# Altium footprint library power_board_pcbblib.PcbLib: 45 footprints (part 2 of 3)
Each footprint in its own frame and in the unit in brackets; x right, y up, seen from the top. Pads: shape width x height; smd on the part's side, far side on the other; paste and mask are expansions set on the pad; w line width, h text height; cw(c..) or ccw(c..) is an arc to the next point about the centre after c.
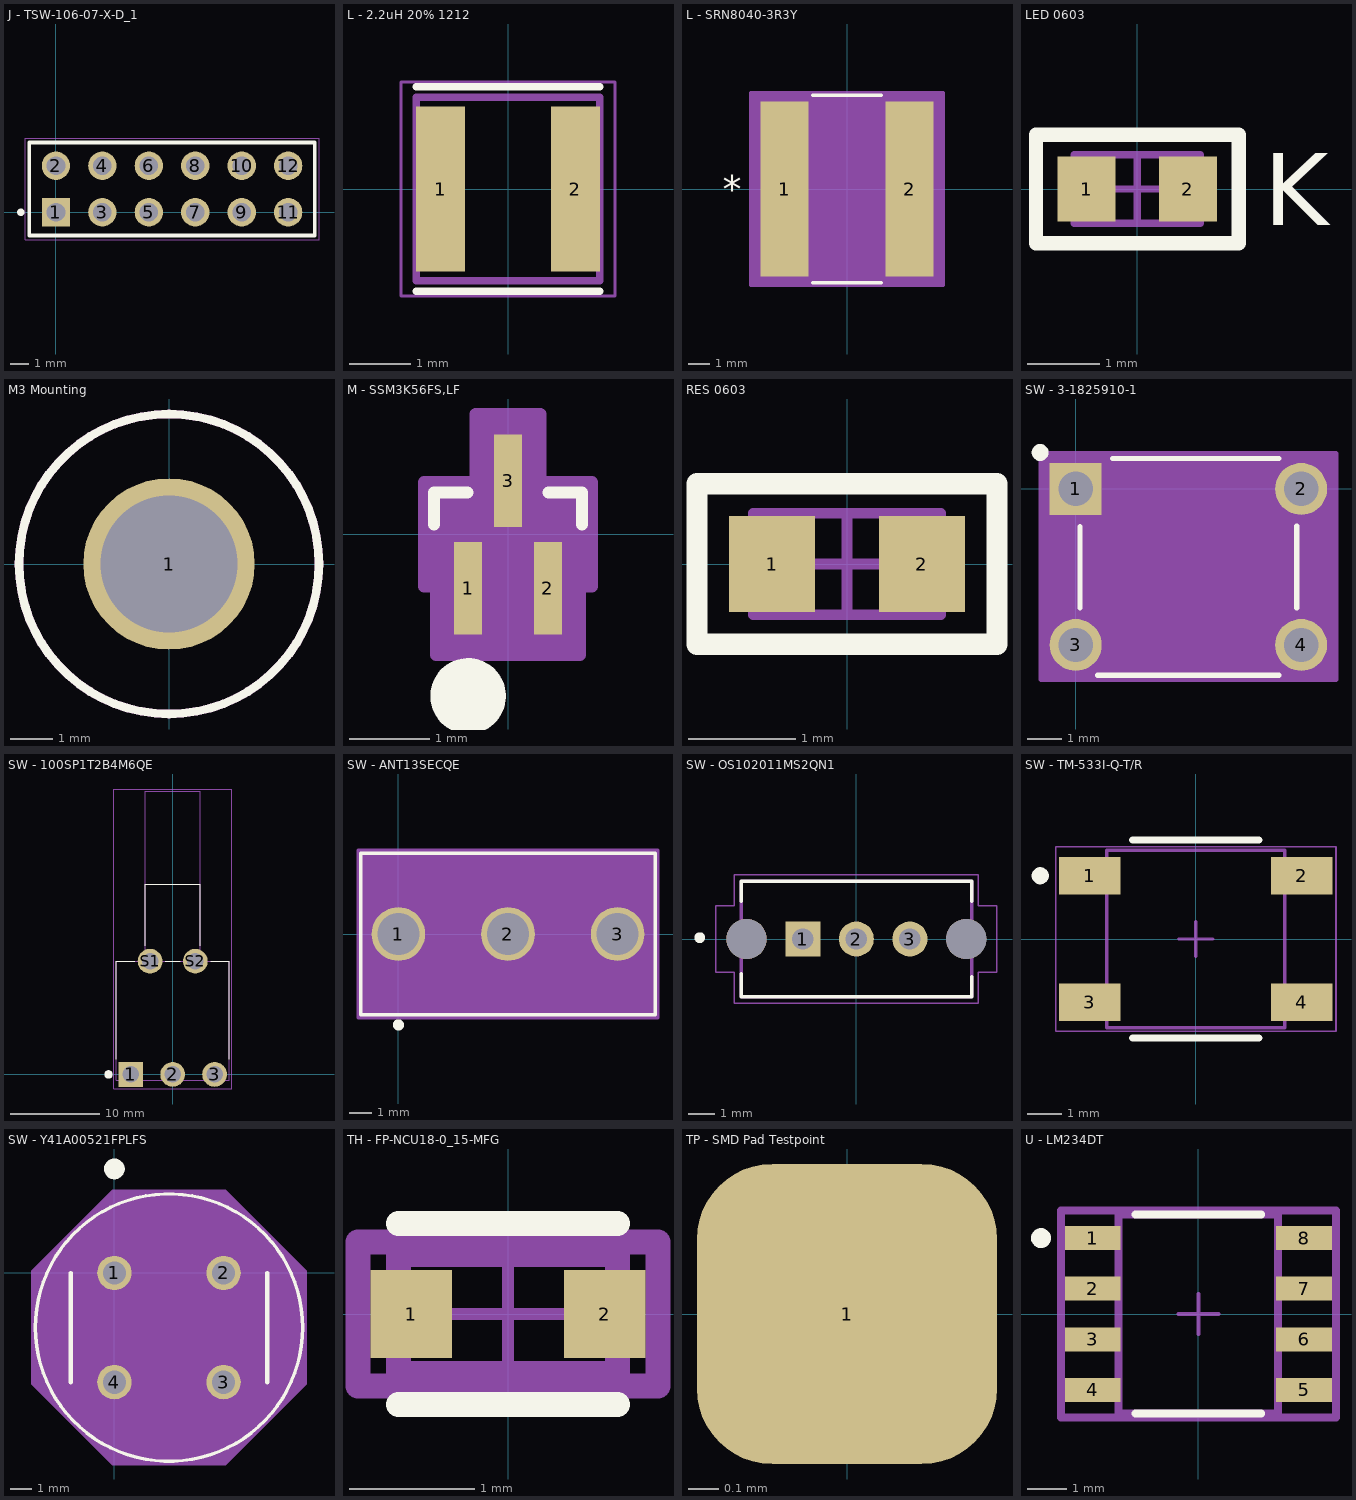
[diagram p1: the footprints below, top view; thin cyan lines are the x and y axes]

## J - TSW-106-07-X-D_1 [mm]
pads (12):
  rect 1.55x1.55 hole 1.02: 1(0,0)
  round 1.55 hole 1.02: 2(0,2.54) 3(2.54,0) 4(2.54,2.54) 5(5.08,0) 6(5.08,2.54) 7(7.62,0) 8(7.62,2.54) 9(10.16,0) 10(10.16,2.54) 11(12.7,0) 12(12.7,2.54)
Top Overlay:
  circle w0.2: c-1.92,0 r0.1
  lines w0.2: -1.46,-1.27 -1.46,3.81 14.16,3.81 14.16,-1.27 -1.46,-1.27
Mechanical 13:
  lines w0.1: -1.46,-1.27 -1.46,3.81 14.16,3.81 14.16,-1.27 -1.46,-1.27
Mechanical 15:
  lines w0.05: -1.685,-1.495 -1.685,4.035 14.385,4.035 14.385,-1.495 -1.685,-1.495
3D body "TSW-106-07-X-D.step": height 8.38, standoff -2.54, extent -1.27,-1.27 13.97,3.81

## L - 2.2uH 20% 1212 [mm]
pads (2):
  rect 0.8x2.7 smd: 1(-1.1,0) 2(1.1,0)
Top Overlay:
  lines w0.127: -1.5,-1.67 1.5,-1.67 ; -1.5,1.67 1.5,1.67
Mechanical 13:
  lines w0.127: -1.5,-1.5 1.5,-1.5 1.5,1.5 -1.5,1.5 -1.5,-1.5
Mechanical 15:
  lines w0.05: -1.75,-1.75 1.75,-1.75 1.75,1.75 -1.75,1.75 -1.75,-1.75
3D body "LQH3NPZ2R2MMEL.STEP": height 1.51, standoff 0.01, extent -1.5,-1.5 1.5,1.5

## L - SRN8040-3R3Y [mil] "SRN8040-3R3Y"
pads (2):
  rect 87x315 smd paste+0 mask+0: 1(-112.5,0) 2(112.5,0)
Top Overlay:
  lines w6: -61.89,-168.5 61.89,-168.5 ; -61.89,168.5 61.89,168.5
  text "*" at -223.35,-24.99 h50
Mechanical 13:
  lines w1: -163.5,-81.75 -163.5,81.75 -81.75,163.5 81.75,163.5 163.5,81.75 163.5,-81.75 81.75,-163.5 -81.75,-163.5 -163.5,-81.75
  text "*" at -156,-50 h50
Mechanical 15:
  region: 173.5,-173.5 -173.5,-173.5 -173.5,173.5 173.5,173.5
  lines w6: -173.5,-173.5 -173.5,173.5 173.5,173.5 173.5,-173.5 -173.5,-173.5
3D body "7435157.stp": height 157.98, standoff 0.5, extent -157.48,-157.48 157.48,157.48

## LED 0603 [mm]
pads (2):
  rect 0.8x0.9 smd: 1(-0.7,0) 2(0.7,0)
Top Overlay:
  lines w0.2: -1.4,-0.75 1.4,-0.75 1.4,0.75 -1.4,0.75 -1.4,-0.75
  text "K" at 1.748,-0.5 h1
Mechanical 13:
  lines w0.1: -0.875,-0.475 0.875,-0.475 0.875,0.475 -0.875,0.475 -0.875,-0.475
Mechanical 15:
  lines w0.1: -0.475,0 0.475,0 ; 0,-0.475 0,0.475 ; -1.4,-0.75 -1.4,0.75 1.4,0.75 1.4,-0.75 -1.4,-0.75
3D body "Diode_Osram_Opto_LS_L29K-G1J2-1-Z_eec.STEP": height 0.25, standoff 0, extent -1.25,-0.55 1.25,0.55

## M3 Mounting [mm]
pads (1):
  round 4 hole 3.2: 1(0,0)
Top Layer keep-out:
  circle w0.2: c0,0 r3.5
Top Overlay:
  circle w0.2: c0,0 r3.5

## M - SSM3K56FS,LF [mm]
pads (3):
  rect 0.351x1.161 smd paste+0 mask+0: 1(-0.5,-0.675) 2(0.5,-0.675) 3(0,0.675)
Top Overlay:
  circle w0.5: c-0.5,-2.025 r0.225
  lines w0.152: -0.927,0.123 -0.927,0.527 -0.508,0.527 ; 0.508,0.527 0.927,0.527 0.927,0.123
Mechanical 13:
  lines w0.025: -0.8,-0.4 0.8,-0.4 0.8,0.4 -0.8,0.4 -0.8,-0.4 ; -0.65,-0.9 -0.65,-0.4 -0.35,-0.4 -0.35,-0.9 -0.65,-0.9 ; -0.15,0.4 0.15,0.4 0.15,0.9 -0.15,0.9 -0.15,0.4 ; 0.35,-0.9 0.35,-0.4 0.65,-0.4 0.65,-0.9 0.35,-0.9
Mechanical 15:
  region: -1.054,-0.654 -1.054,0.654 -0.404,0.654 -0.404,1.51 0.404,1.51 0.404,0.654 1.054,0.654 1.054,-0.654 0.904,-0.654 0.904,-1.51 -0.904,-1.51 -0.904,-0.654
  lines w0.152: -1.054,-0.654 -1.054,0.654 -0.404,0.654 -0.404,1.51 0.404,1.51 0.404,0.654 1.054,0.654 1.054,-0.654 0.904,-0.654 0.904,-1.51 -0.904,-1.51 -0.904,-0.654 -1.054,-0.654
3D body "SSM_TOS.step": height 0.8, standoff 0, extent -0.8,-0.9 0.8,0.9

## RES 0603 [mm]
pads (2):
  rect 0.8x0.9 smd: 1(-0.7,0) 2(0.7,0)
Top Overlay:
  lines w0.2: -1.4,-0.75 -1.4,0.75 1.4,0.75 1.4,-0.75 -1.4,-0.75
Mechanical 13:
  lines w0.1: -0.875,-0.475 -0.875,0.475 0.875,0.475 0.875,-0.475 -0.875,-0.475
Mechanical 15:
  lines w0.1: -0.475,0 0.475,0 ; 0,-0.475 0,0.475 ; -1.4,-0.75 1.4,-0.75 1.4,0.75 -1.4,0.75 -1.4,-0.75
3D body: height 1.3, standoff 0, extent -0.875,-0.475 0.875,0.475

## SW - 3-1825910-1 [mil] "3-1825910-1"
pads (4):
  rect 59x59 / inner round 60 / far side rect 59x59 hole 39 paste-99999 mask+0: 1(0,0)
  round 59 / inner round 60 / far side round 59 hole 39 paste-99999 mask-29.5: 2(255.91,0) 3(0,-177.17) 4(255.91,-177.17)
Top Overlay:
  circle w9.84: c-40.35,41.34 r4.72
  lines w6: 4.95,-134.85 4.95,-42.6 ; 25.1,-211.58 230.8,-211.58 ; 41.64,34.42 230.8,34.42 ; 250.95,-134.85 250.95,-42.31
Mechanical 13:
  lines w0: 115.95,29.42 ccw(c127.95,29.42) 139.95,29.42
  lines w1: -19.5,-196.67 -19.5,-157.67 9.95,-157.67 9.95,-196.67 -19.5,-196.67 ; -19.5,-19.5 -19.5,19.5 9.95,19.5 9.95,-19.5 -19.5,-19.5 ; 9.95,-206.58 245.95,-206.58 245.95,29.42 9.95,29.42 9.95,-206.58 ; 245.95,-196.67 245.95,-157.67 275.41,-157.67 275.41,-196.67 245.95,-196.67 ; 245.95,-19.5 245.95,19.5 275.41,19.5 275.41,-19.5 245.95,-19.5
  text "*" at 33.41,-12.17 h50
Mechanical 15:
  region: 255.91,-216.17 295.41,-216.17 295.41,39.83 255.91,39.83 255.91,39.42 -0.05,39.42 0,39.83 -39.5,39.83 -39.5,-216.17 0,-216.17 -0.05,-216.58 255.91,-216.58
  lines w6: -39.5,-216.17 -39.5,39.83 295.41,39.83 295.41,-216.17 -39.5,-216.17
3D body "c-3-1825910-1-c-3d.stp": height 669.79, standoff -137.69, extent -23.62,-204.53 283.46,31.3

## SW - 100SP1T2B4M6QE [mm]
pads (5):
  rect 2.775x2.775 / inner round 2.775 / far side rect 2.775x2.775 hole 1.85: 1(-4.7,0)
  round 2.775 hole 1.85: 2(0,0) 3(4.7,0) S1(-2.54,12.7) S2(2.54,12.7)
Top Overlay:
  circle w0.5: c-7.2,0 r0.225
  lines w0.127: -6.35,1.707 -6.35,12.7 -4.247,12.7 ; -3.085,14.407 -3.085,21.35 3.085,21.35 3.085,14.407 ; -0.833,12.7 0.833,12.7 ; 4.247,12.7 6.35,12.7 6.35,1.707
Mechanical 13:
  lines w0.127: -3.085,12.7 -3.085,31.76 3.085,31.76 3.085,12.7 ; -3.085,12.7 -6.35,12.7 -6.35,-0.635 6.35,-0.635 6.35,12.7 3.085,12.7 ; -3.085,12.7 3.085,12.7
Mechanical 15:
  lines w0.05: -6.6,-1.637 6.6,-1.637 6.6,32.01 -6.6,32.01 -6.6,-1.637
3D body "step_temp.STEP": height 6.86, standoff -3.17, extent -6.35,-0.635 6.35,26.515

## SW - ANT13SECQE [mil] "ANT13SECQE"
pads (3):
  round 93 hole 73 paste-99999 mask+0: 1(0,0) 2(190,0) 3(380,0)
Top Overlay:
  circle w9.84: c0,-157.48 r4.72
  lines w6: -65,-140 -65,140 445,140 445,-140 -65,-140
Mechanical 13:
  circle w20: c0,75 r15
  lines w1: -60,-135 -60,135 440,135 440,-135 -60,-135
Mechanical 15:
  region: 450,145 -70,145 -70,-145 450,-145
  lines w6: -70,-145 450,-145 450,145 -70,145 -70,-145
3D body "ANT13SECQE.stp": height 1060.35, standoff -249.32, extent -60,-135.04 440,135.04

## SW - OS102011MS2QN1 [mm]
pads (5):
  rect 1.308x1.308 / inner round 1.308 / far side rect 1.308x1.308 hole 0.8: 1(-2,0)
  round 1.308 hole 0.8: 2(0,0) 3(2,0)
  round 1.5 hole 1.5 unplated: ""(-4.1,0) ""(4.1,0)
Top Overlay:
  circle w0.2: c-5.85,0.05 r0.1
  lines w0.127: -4.3,-1.3 -4.3,-2.15 4.3,-2.15 4.3,-1.4 ; -4.3,1.4 -4.3,2.15 4.3,2.15 4.3,1.4
Mechanical 13:
  circle w0.2: c-2.1,0.05 r0.1
  lines w0.127: -4.3,-2.15 4.3,-2.15 4.3,2.15 -4.3,2.15 -4.3,-2.15
Mechanical 15:
  lines w0.05: -5.25,-1.25 -4.55,-1.25 -4.55,-2.4 4.55,-2.4 4.55,-1.25 5.25,-1.25 5.25,1.25 4.55,1.25 4.55,2.4 -4.55,2.4 -4.55,1.25 -5.25,1.25 -5.25,-1.25
3D body "step_temp.STEP": height 4.4, standoff -7.1, extent -4.3,-2.15 4.3,2.15

## SW - TM-533I-Q-T/R [mm]
pads (4):
  rect 1.8x1.1 smd: 1(-3.1,1.85) 2(3.1,1.85) 3(-3.1,-1.85) 4(3.1,-1.85)
Top Overlay:
  circle w0.25: c-4.55,1.85 r0.125
  lines w0.2: -1.85,-2.9 1.85,-2.9 ; -1.85,2.9 1.85,2.9
Mechanical 13:
  lines w0.1: -2.6,-2.6 2.6,-2.6 2.6,2.6 -2.6,2.6 -2.6,-2.6
Mechanical 15:
  lines w0.05: -4.1,-2.7 -4.1,2.7 4.1,2.7 4.1,-2.7 -4.1,-2.7
  lines w0.1: -0.5,0 0.5,0 ; 0,-0.5 0,0.5
3D body: height 1.69, standoff 0, extent -2.6,-2.6 2.6,2.6
3D body: height 1.74, standoff 0.05, extent -0.992,-0.998 1,0.998

## SW - Y41A00521FPLFS [mil]
pads (4):
  round 62 / inner round 60 / far side round 62 hole 42 paste-99999 mask+0: 1(0,0) 2(196.85,0) 3(196.85,-196.85) 4(0,-196.85)
Top Overlay:
  circle w6: c98.43,-98.42 r241
  circle w19.68: c0,187.57 r8.86
  lines w7.87: -78.74,-196.85 -78.74,0 ; 275.59,-196.85 275.59,0
Mechanical 13:
  circle w0: c98.43,-98.42 r236
  circle w0: c98.43,-98.42 r177
  text "RefDes2" at 10.93,-123.42 h50
Mechanical 15:
  region: -147.57,2.87 -2.87,147.57 199.72,147.57 344.43,2.87 344.43,-199.72 199.72,-344.43 -2.87,-344.43 -147.57,-199.72
  lines w6: -147.57,-199.72 -147.57,2.87 -2.87,147.57 199.72,147.57 344.43,2.87 344.43,-199.72 199.72,-344.43 -2.87,-344.43 -147.57,-199.72
3D body "D6R90F2LFS.stp": height 563.5, standoff -137.29, extent -137.8,-311.02 334.65,137.34

## TH - FP-NCU18-0_15-MFG [mm]
pads (2):
  rect 0.65x0.7 smd paste+0 mask+0: 1(-0.775,0) 2(0.775,0)
Top Overlay:
  lines w0.2: -0.875,-0.725 0.875,-0.725 ; -0.875,0.725 0.875,0.725
Top 3D Body:
  lines w0.2: -0.875,-0.475 0.875,-0.475 0.875,0.475 -0.875,0.475 -0.875,-0.475
Top Courtyard:
  lines w0.2: -1.2,-0.575 1.2,-0.575 1.2,0.575 -1.2,0.575 -1.2,-0.575
Top Assembly:
  lines w0.2: -1.2,-0.575 1.2,-0.575 1.2,0.575 -1.2,0.575 -1.2,-0.575
Top Component Center:
  lines w0.1: -0.5,0 0.5,0 ; 0,-0.5 0,0.5
3D body "Res_Murata_NCU18WB473J6SRB_eec.STEP": height 0.25, standoff 0, extent -1.2,-0.575 1.2,0.575

## TP - SMD Pad Testpoint [mm]
pads (1):
  rrect50% 1x1 smd: 1(0,0)

## U - LM234DT [mm]
pads (8):
  rect 1.4x0.6 smd paste+0 mask+0: 1(-2.65,1.905) 2(-2.65,0.635) 3(-2.65,-0.635) 4(-2.65,-1.905) 5(2.65,-1.905) 6(2.65,-0.635) 7(2.65,0.635) 8(2.65,1.905)
Top Overlay:
  circle w0.25: c-3.95,1.905 r0.125
  lines w0.2: -1.575,-2.5 1.575,-2.5 ; -1.575,2.5 1.575,2.5
Top 3D Body:
  lines w0.2: -2,-2.5 2,-2.5 2,2.5 -2,2.5 -2,-2.5
Board:
  lines w0.2: -3.45,-2.6 3.45,-2.6 3.45,2.6 -3.45,2.6 -3.45,-2.6
Top Assembly:
  lines w0.2: -3.45,-2.6 3.45,-2.6 3.45,2.6 -3.45,2.6 -3.45,-2.6
  text ".Designator" at 0,0.188 h1
Top Component Center:
  lines w0.1: -0.5,0 0.5,0 ; 0,-0.5 0,0.5
3D body "IC_STMICROELECTRONICS_LM234DT_eec.STEP": height 0.25, standoff 0, extent -3.45,-2.6 3.45,2.6